# Altium footprint library PCB - CONNECTOR - USB - MOLEX 1051330001.PcbLib: 1 footprints
Each footprint in its own frame and in the unit in brackets; x right, y up, seen from the top. Pads: shape width x height; smd on the part's side, far side on the other; paste and mask are expansions set on the pad; w line width, h text height; cw(c..) or ccw(c..) is an arc to the next point about the centre after c.
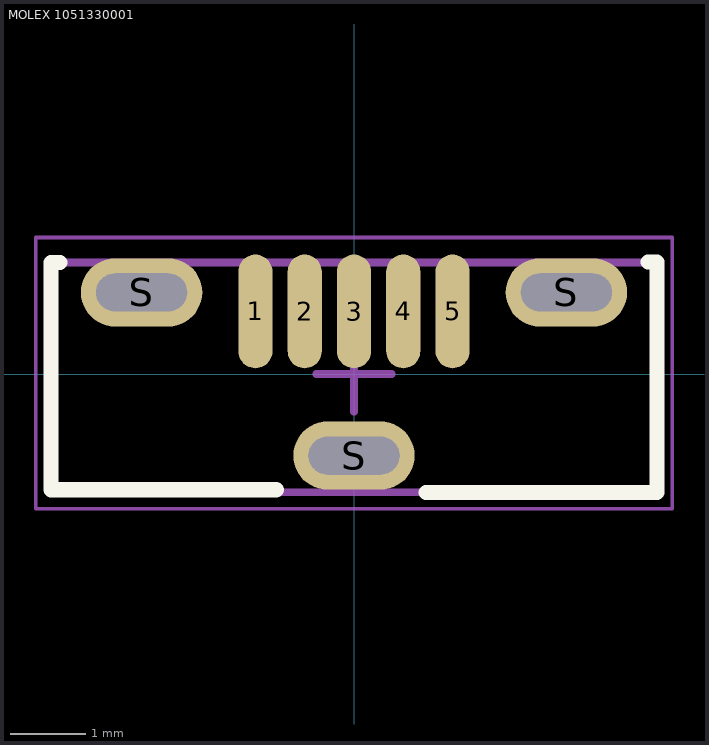
[diagram p0: the footprint, top view; thin cyan lines are the x and y axes]

## MOLEX 1051330001 [mm] "micro B USB 2.0 Receptacle Connector, 5 Position, Body 8.00x2.90 mm"
height 6.7
pads (8):
  oval 0.45x1.5 smd: 1(-1.3,0.825) 2(-0.65,0.825) 3(0,0.825) 4(0.65,0.825) 5(1.3,0.825)
  oval 1.6x0.9 hole 0.5 slot 1.2 at 0 deg: S(-2.8,1.075) S(0,-1.075) S(2.8,1.075)
Top Overlay:
  lines w0.2: -3.875,1.469 -3.994,1.469 -3.994,-1.525 -1.025,-1.525 ; 0.95,-1.56 3.994,-1.56 3.994,1.475 3.875,1.475
Mechanical 13:
  lines w0.1: -3.994,-1.56 -3.994,1.469 3.994,1.469 3.994,-1.56 -3.994,-1.56
Mechanical 15 (Mech15):
  lines w0.05: -4.194,-1.775 -4.194,1.8 4.194,1.8 4.194,-1.775 -4.194,-1.775
  lines w0.1: -0.5,0 0,0 ; 0,-0.5 0,0 ; 0,0.5 0,0 ; 0.5,0 0,0
3D body "Molex - 1051330001 v2.step": height 6.75, standoff -1.65, extent -3.994,-1.56 3.994,1.469